# EAGLE library part SI9986 (library Si9986)
The Si9986 is an integrated, buffered H-bridge with TTL compatible inputs and the capability of delivering a continuous 1.0 A @ VDD = 12 V (room temperature) at switching rates up to 200 kHz. Internal logic prevents the upper and lower outputs of either half-bridge from being turned on simultaneously. Unique input codes allow both outputs to be forced low (for braking) or forced to a high impedance level.
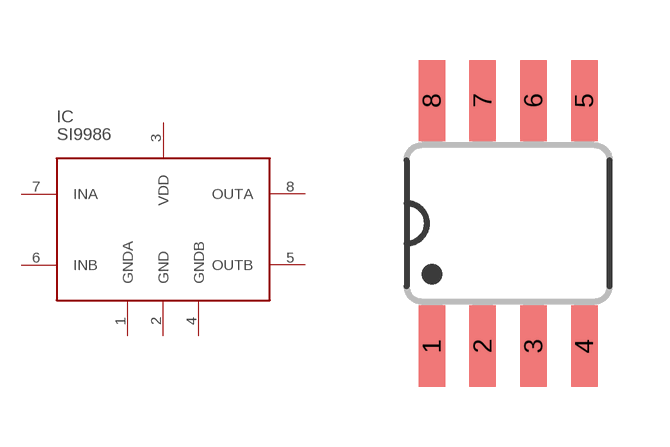
[diagram p0: symbol with the pads of SO-08; footprint SO-08]

Designator prefix IC

## SI9986  [SO-08]
1  GNDA
2  GND
3  VDD
4  GNDB
5  OUTB
6  INB
7  INA
8  OUTA

## Footprint SO-08 (pad centres in mm)
Small Outline Narrow Plastic Gull Wing 150-mil body, package type SN
smd 0.66 x 2.032: 1 -1.905,-3.073; 2 -0.635,-3.073; 3 0.635,-3.073; 4 1.905,-3.073; 5 1.905,3.073; 6 0.635,3.073; 7 -0.635,3.073; 8 -1.905,3.073